# EAGLE library part AS1322 (library xmaker)
Austria Microsystems DC-DC Convertor.
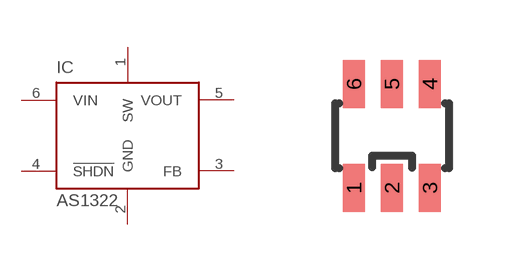
[diagram p0: symbol with the pads of SOT23-6; footprint SOT23-6]

Designator prefix IC

## AS1322A  [SOT23-6]
1  SW
2  GND
3  FB
4  !SHDN
5  VOUT
6  VIN

## Footprint SOT23-6 (pad centres in mm)
Small Outline Transistor
smd 0.55 x 1.2: 1 -0.95,-1.3; 2 0,-1.3; 3 0.95,-1.3; 4 0.95,1.3; 5 0,1.3; 6 -0.95,1.3